# Altium footprint library ESP32-C3-DevKitC-02.PcbLib: 1 footprints
Each footprint in its own frame and in the unit in brackets; x right, y up, seen from the top. Pads: shape width x height; smd on the part's side, far side on the other; paste and mask are expansions set on the pad; w line width, h text height; cw(c..) or ccw(c..) is an arc to the next point about the centre after c.
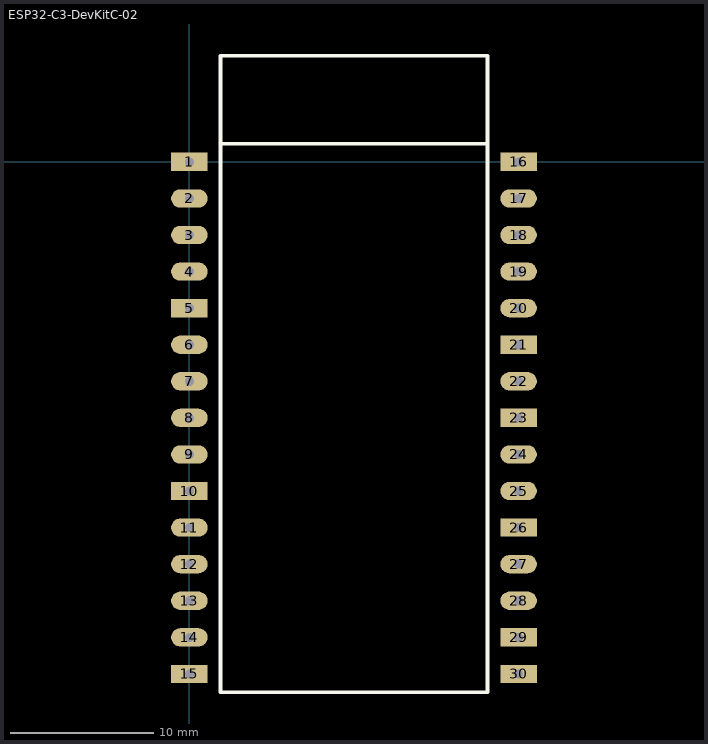
[diagram p0: the footprint, top view; thin cyan lines are the x and y axes]

## ESP32-C3-DevKitC-02 [mil] "ESP32-C3-DevKitC-02 is an entry-level development board based on ESP32-C3-WROOM-02, a general-purpose module with 4 MB SPI flash. This board integrates complete Wi-Fi and Bluetooth LE functions."
pads (30):
  rect 100x50 hole 25: 1(0,0) 5(0,-400) 10(0,-900) 15(0,-1400) 16(900,0) 21(900,-500) 23(900,-700) 26(900,-1000) 29(900,-1300) 30(900,-1400)
  oval 100x50 hole 25: 2(0,-100) 3(0,-200) 4(0,-300) 6(0,-500) 7(0,-600) 8(0,-700) 9(0,-800) 11(0,-1000) 12(0,-1100) 13(0,-1200) 14(0,-1300) 17(900,-100) 18(900,-200) 19(900,-300) 20(900,-400) 22(900,-600) 24(900,-800) 25(900,-900) 27(900,-1100) 28(900,-1200)
Top Overlay:
  lines w10: 85,50 85,290 815,290 815,50 ; 85,50 815,50 ; 85,50 85,-1450 815,-1450 815,50
3D body "ESP32-C3-DevKitC-02--3DModel-STEP-269445.STEP": height 294.88, standoff -236.22, extent -50,-1468.27 950,319.92